# Altium schematic symbol library TI.SchLib: 1 symbol
Pins are listed as number, name and electrical type; pins without a type are passive.

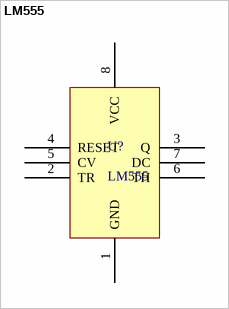
[diagram p0: symbol LM555]

## LM555
designator U?
Timer
pins: 1 GND, 2 TR, 3 Q, 4 RESET, 5 CV, 6 TH, 7 DC, 8 VCC